# EAGLE library part 750841243 (library Wurth Electronics Midcom Inc V1-0)
Package Style: Standard EPT20 Mounting: THT Pins: 10 pins Bobbin: 070-5669 Windings Primary: 85 - 265VDC, 85kHz Aux: 20.0VDC, 50mADC Secondary: 40V, 750mA Best pinouts for production vary per application. Please contact Wurth Electronics Midcom, Inc. for assistance with your custom design. Datasheet: 750841243 <http://www.we-online.com/web/en/index.php/show/media/06_passive_components_-_custom_magnetics/pdf_doc_files/spec_sheets/7508/750841243.pdf> Website: Wurth Electronics Midcom <http://www.we-online.com/midcom> Contact us Wurth Electronics Midcom, Inc. 121 Airport Dr. Watertown, SD 57201 Phone: (605) 886-4385 Fax: (605) 886-4486 E-Mail: midcom@we-online.com
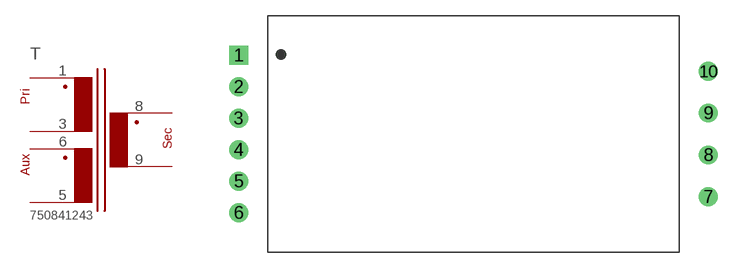
[diagram p134: symbol with the pads of 01STANDARD_EPT20_THT_10PIN; footprint 01STANDARD_EPT20_THT_10PIN]

Designator prefix T

## 750841243  [01STANDARD_EPT20_THT_10PIN]
1  1  pas
3  2  pas
5  4  pas
6  3  pas
8  5  pas
9  6  pas

## Footprint 01STANDARD_EPT20_THT_10PIN (pad centres in mm)
Package Style: Speedy EPT20 Mounting: THT Pins: 10 pins Bobbin: 070-5669
drill 1.194 square: 1 -22.352,7.493
drill 1.194 round: 2 -22.352,4.496; 3 -22.352,1.499; 4 -22.352,-1.499; 5 -22.352,-4.496; 6 -22.352,-7.493; 7 22.352,-5.982; 8 22.352,-1.994; 9 22.352,1.994; 10 22.352,5.982